# EAGLE library part MP-* (library rele)
RELAY
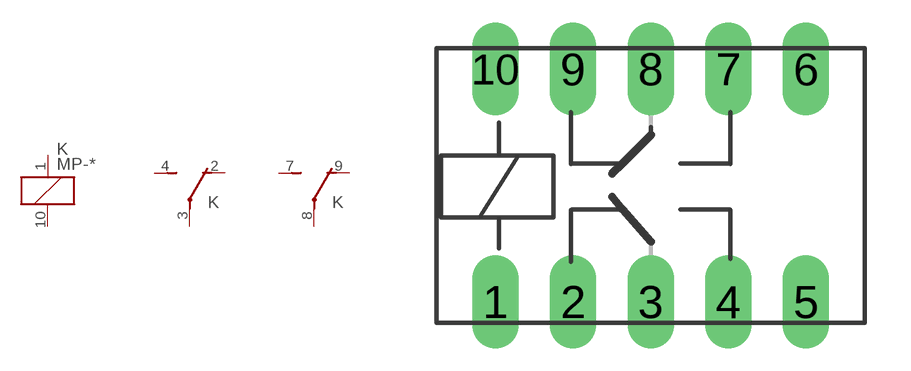
[diagram p12: symbol with the pads of MP; footprint MP]

Designator prefix K; gates G$1=K G$2=U G$3=U

## MP-05, MP-12, MP-24  [MP]
1  G$1:1  pas
2  G$2:O  pas
3  G$2:P  pas
4  G$2:S  pas
7  G$3:S  pas
8  G$3:P  pas
9  G$3:O  pas
10  G$1:2  pas

## Footprint MP (pad centres in mm)
RELAY
drill 1.016 long: 1 -5.08,-3.81; 2 -2.54,-3.81; 3 0,-3.81; 4 2.54,-3.81; 5 5.08,-3.81; 6 5.08,3.81; 7 2.54,3.81; 8 0,3.81; 9 -2.54,3.81; 10 -5.08,3.81